# Altium footprint library custom-case-displays.PcbLib: 1 footprints
Each footprint in its own frame and in the unit in brackets; x right, y up, seen from the top. Pads: shape width x height; smd on the part's side, far side on the other; paste and mask are expansions set on the pad; w line width, h text height; cw(c..) or ccw(c..) is an arc to the next point about the centre after c.
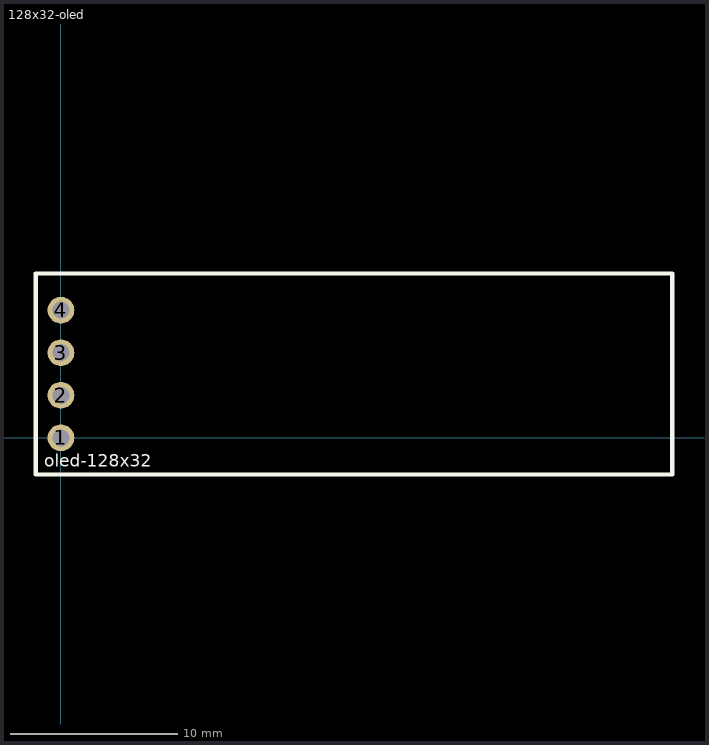
[diagram p0: the footprint, top view; thin cyan lines are the x and y axes]

## 128x32-oled [mil]
pads (4):
  round 63 hole 40: 1(0,0) 2(0,100) 3(0,200) 4(0,300)
Top Overlay:
  lines w9.84: -59.06,-86.22 1437.01,-86.22 1437.01,386.22 -59.06,386.22 -59.06,-86.22
  text "oled-128x32" at -39.37,-78.14 h50
3D body "OLED_0.91_128x32.stp": height 208.82, standoff -242.36, extent -62.3,-90.54 1445.57,385.84